# Altium footprint library 1.06-保险丝.PcbLib: 18 footprints (part 1 of 2)
Each footprint in its own frame and in the unit in brackets; x right, y up, seen from the top. Pads: shape width x height; smd on the part's side, far side on the other; paste and mask are expansions set on the pad; w line width, h text height; cw(c..) or ccw(c..) is an arc to the next point about the centre after c.
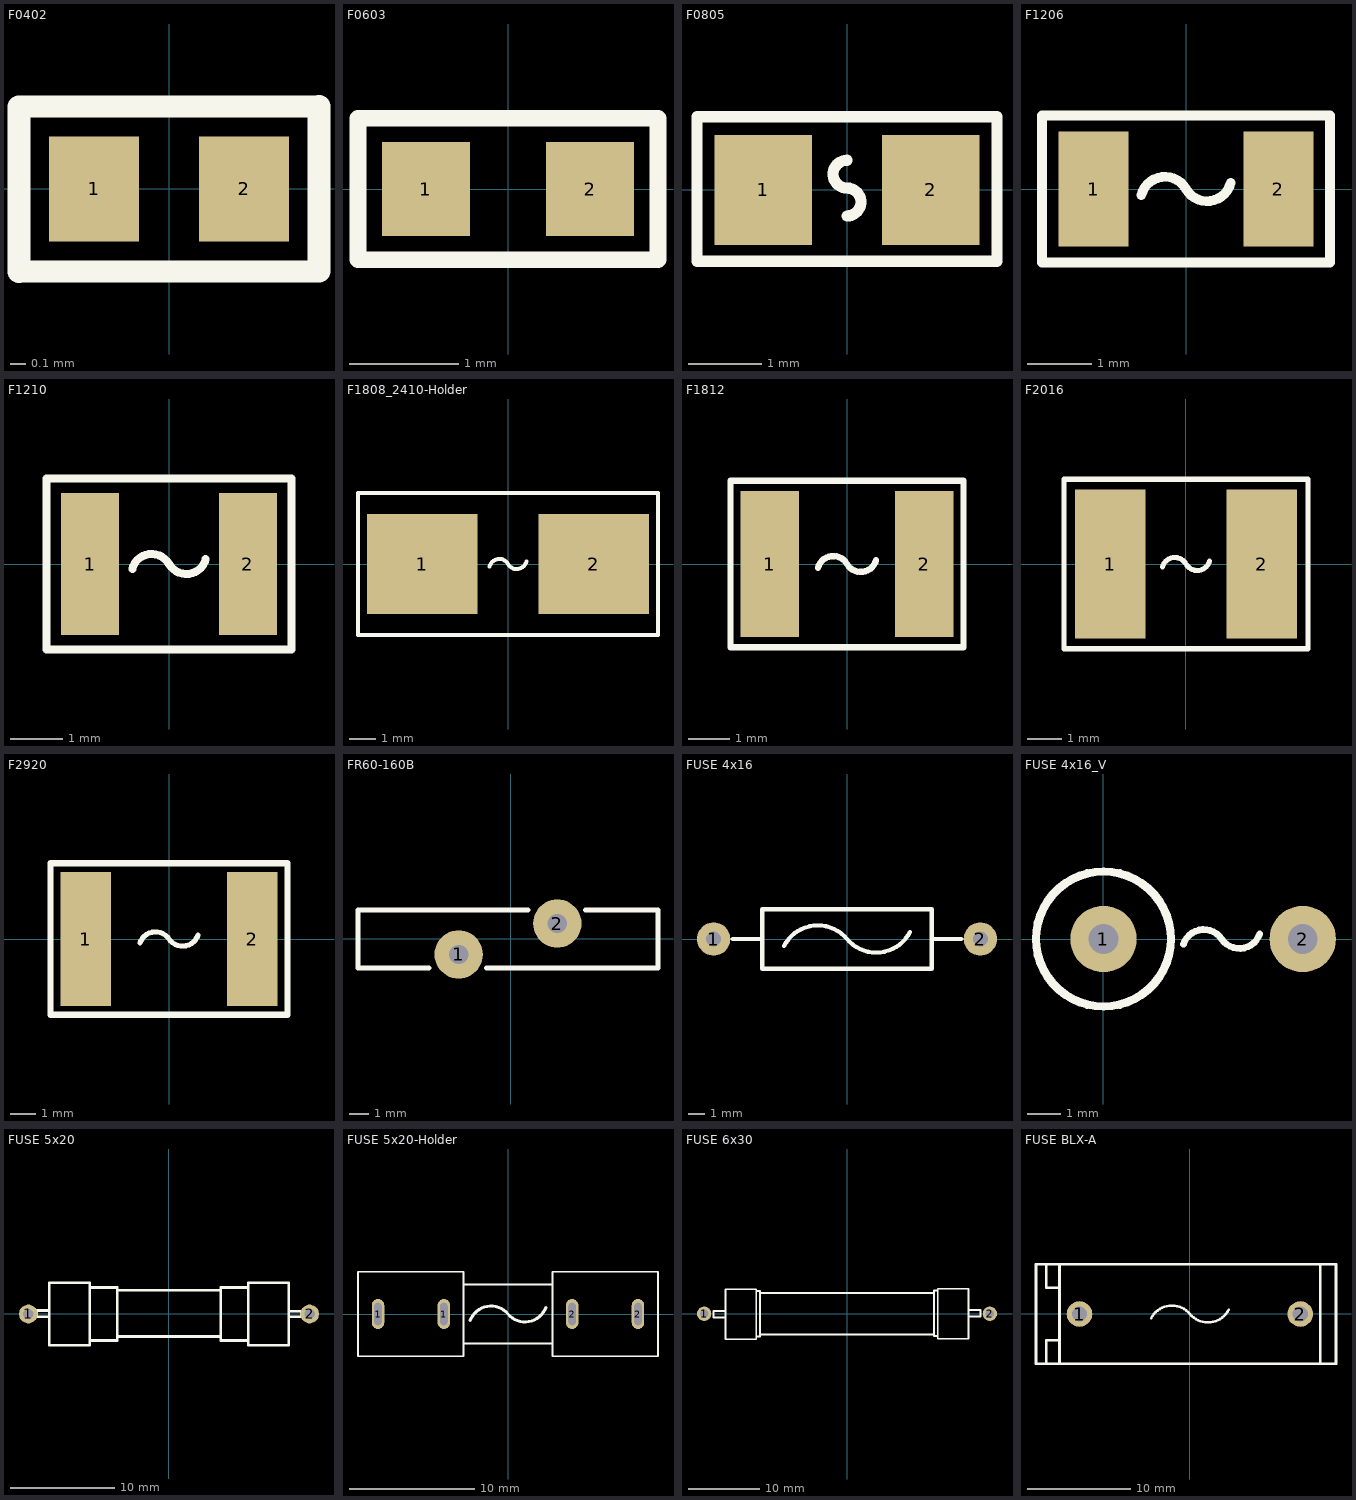
[diagram p0: the footprints below, top view; thin cyan lines are the x and y axes]

## F0402 [mm] "0402贴片自恢复保险丝(PPTC)"
pads (2):
  rect 0.6x0.7 smd: 1(-0.5,0) 2(0.5,0)
Top Overlay:
  lines w0.15: -1,-0.55 1,-0.55 1,0.55 -1,0.55 -1,-0.55
3D body: height 0.36, standoff 0.03, extent -0.5,-0.25 0.5,0.25

## F0603 [mm] "0603贴片自恢复保险丝(PPTC)"
pads (2):
  rect 0.806x0.864 smd: 1(-0.753,0) 2(0.753,0)
Top Overlay:
  lines w0.152: 1.374,-0.65 -1.375,-0.65 -1.375,0.65 1.375,0.65 1.375,-0.65
3D body: height 0.53, standoff 0, extent -0.825,-0.425 0.825,0.425

## F0805 [mm] "0805贴片自恢复保险丝(PPTC)   联系卖家 免费查找封装"
pads (2):
  rect 1.335x1.5 smd: 1(-1.142,0) 2(1.142,0)
Top Overlay:
  lines w0.152: 0,-0.356 ccw(c0,-0.166) 0,0.025 cw(c0,0.215) 0,0.406 ; -2.05,-0.975 2.05,-0.975 2.05,1 -2.05,1 -2.05,-0.975
3D body: height 0.8, standoff 0, extent -1.05,-0.7 1.05,0.7

## F1206 [mm] "1206贴片自恢复保险丝(PPTC)   联系卖家 免费查找封装"
pads (2):
  rect 1.1x1.8 smd: 1(-1.445,0) 2(1.445,0)
Top Overlay:
  lines w0.152: -0.698,-0.092 cw(c-0.33,-0.191) 0,0 ccw(c0.33,0.191) 0.698,0.092 ; -2.25,-1.15 2.25,-1.15 2.25,1.15 -2.25,1.15 -2.25,-1.15
3D body: height 0.61, standoff 0.01, extent -1.6,-0.85 1.6,0.85

## F1210 [mm] "1210贴片自恢复保险丝(PPTC)"
pads (2):
  rect 1.1x2.7 smd: 1(-1.5,0) 2(1.5,0)
Top Overlay:
  lines w0.152: -0.698,-0.092 cw(c-0.33,-0.191) 0,0 ccw(c0.33,0.191) 0.698,0.092 ; -2.325,-1.625 2.325,-1.625 2.325,1.625 -2.325,1.625 -2.325,-1.625
3D body: height 0.62, standoff 0, extent -1.6,-1.3 1.6,1.3

## F1808_2410-Holder [mm] "1808/2410贴片保险丝座"
pads (2):
  rect 4.2x3.8 smd: 1(-3.25,0) 2(3.25,0)
Top Overlay:
  lines w0.152: -0.698,-0.092 cw(c-0.33,-0.191) 0,0 ccw(c0.33,0.191) 0.698,0.092 ; -5.7,-2.7 -5.7,2.7 5.7,2.7 5.7,-2.7 -5.7,-2.7
3D body: height 3.81, standoff 0, extent -4.865,-2.516 4.865,2.516

## F1812 [mm] "1812贴片自恢复保险丝(PPTC)"
pads (2):
  rect 1.407x3.499 smd: 1(-1.853,0) 2(1.853,0)
Top Overlay:
  lines w0.152: -0.698,-0.092 cw(c-0.33,-0.191) 0,0 ccw(c0.33,0.191) 0.698,0.092 ; -2.8,-2 -2.8,2 2.8,2 2.8,-2 -2.8,-2
3D body: height 1.04, standoff 0, extent -2.25,-1.6 2.25,1.6

## F2016 [mm] "2016贴片自恢复保险丝(PPTC)"
pads (2):
  rect 2.085x4.385 smd: 1(-2.232,0) 2(2.233,0)
Top Overlay:
  lines w0.152: -0.698,-0.092 cw(c-0.33,-0.191) 0,0 ccw(c0.33,0.191) 0.698,0.092 ; -3.6,-2.5 -3.6,2.5 3.6,2.5 3.6,-2.5 -3.6,-2.5
3D body: height 1.02, standoff 0.02, extent -2.722,-2.217 2.722,2.217

## F2920 [mm] "2920贴片自恢复保险丝(PPTC)   联系卖家 免费查找封装"
pads (2):
  rect 2x5.3 smd: 1(-3.3,0) 2(3.3,0)
Top Overlay:
  lines w0.203: -1.15,-0.156 cw(c-0.537,-0.362) 0,0 ccw(c0.537,0.362) 1.15,0.156
  lines w0.254: -4.7,-3 4.7,-3 4.7,3 -4.7,3 -4.7,-3
3D body: height 0.74, standoff 0, extent -4,-2.7 4,2.7

## FR60-160B [mm] "直径15.5mm，厚度3mm，脚距5.1mm"
pads (2):
  round 2.5 hole 1: 1(-2.7,-0.8) 2(2.4,0.8)
Top Overlay:
  lines w0.254: -4.216,-1.5 -7.899,-1.5 -7.899,1.5 0.889,1.499 ; -1.27,-1.499 7.601,-1.5 7.601,1.5 3.861,1.499
3D body: height 18.5, standoff -3.5, extent -7.898,-1.5 7.599,1.5

## FUSE 4x16 [mm] "4*16mm(直径，脚距）"
pads (2):
  round 2 hole 0.9: 1(-8,0) 2(8,0)
Top Overlay:
  lines w0.254: -6.858,0 -5.08,0 ; -3.782,-0.419 cw(c-1.751,-1.469) 0,0 ccw(c1.751,1.469) 3.782,0.419 ; 5.08,0 6.858,0 ; -5.08,-1.778 -5.08,1.778 5.08,1.778 5.08,-1.778 -5.08,-1.778
3D body: height 3.95, standoff -3.55, extent -8.3,-1.95 8.3,1.95

## FUSE 4x16_V [mm] "4*16mm(直径，脚距）         淘宝ID:黄晶宝石"
pads (2):
  round 2 hole 0.9: 1(0,0) 2(6,0)
Top Overlay:
  circle w0.254: c0,0 r2.032
  lines w0.203: 2.406,-0.156 cw(c3.019,-0.362) 3.556,0 ccw(c4.093,0.362) 4.706,0.156
3D body: height 13.1, standoff -3.5, extent -2,-1.997 6.3,1.997

## FUSE 5x20 [mm] "BD5.5-L21.5-P25.50-D0.7"
pads (2):
  round 1.801 hole 1.001 mask+0.051: 1(-13.5,0) 2(13.5,0)
Top Overlay:
  lines w0.254: -11.501,-0.254 -12.7,-0.254 -12.7,0.333 -11.501,0.333 ; -4.953,-2.159 4.953,-2.159 ; -4.953,2.286 4.953,2.286 ; 11.501,-0.254 12.7,-0.254 12.7,0.264 11.501,0.264 ; -7.62,-2.54 -7.62,-3 -11.501,-3 -11.501,3 -7.62,3 -7.62,2.54 ; -7.62,-2.54 -4.953,-2.54 -4.953,2.54 -7.62,2.54 ; -7.62,-2.54 -7.62,2.54 ; 7.62,-2.54 7.62,-3 11.501,-3 11.501,3 7.62,3 7.62,2.54 ; 7.62,-2.54 4.953,-2.54 4.953,2.54 7.62,2.54 ; 7.62,-2.54 7.62,2.54
3D body: height 6.4, standoff -3.4, extent -13.825,-3.1 13.825,3.1

## FUSE 5x20-Holder [mm] "5*20保险管底座夹子"
pads (4):
  oval 1x2.4 hole 0.6 slot 1.8 at 90 deg: 1(-10.4,0) 1(-5.13,0) 2(5.13,0) 2(10.4,0)
Top Overlay:
  lines w0.15: -3.556,-2.35 3.556,-2.35 ; -3.556,2.35 3.556,2.35 ; -12,-3.38 -12,3.38 -3.556,3.38 -3.556,-3.38 -12,-3.38 ; 3.556,-3.38 3.556,3.38 12,3.38 12,-3.38 3.556,-3.38
  lines w0.254: -3.027,-0.52 cw(c-1.362,-1.143) 0,0 ccw(c1.362,1.143) 3.027,0.52
3D body: height 9.77, standoff -3.6, extent -10.8,-3.15 10.8,3.15

## FUSE 6x30 [mm] "BD7.0-L32.7-P36.70-D0.9"
pads (2):
  round 1.999 hole 1.199 mask+0.051: 1(-20,0) 2(20,0)
Top Overlay:
  lines w0.254: -17.018,-0.508 -18.669,-0.508 -18.669,0.381 -17.018,0.381 ; -12.192,-2.921 12.192,-2.921 ; -12.192,2.921 12.192,2.921 ; 17.018,-0.381 18.669,-0.381 18.669,0.508 17.018,0.508 ; -17.018,-3.556 -17.018,3.429 -12.7,3.429 -12.7,-3.556 -17.018,-3.556 ; -12.7,-3.175 -12.7,3.175 -12.192,3.175 -12.192,-3.175 -12.7,-3.175 ; 12.192,-3.111 12.192,3.238 12.7,3.238 12.7,-3.111 12.192,-3.111 ; 12.7,-3.492 12.7,3.492 17.018,3.492 17.018,-3.492 12.7,-3.492
3D body: height 6.99, standoff -5, extent -20.341,-3.728 20.68,3.257

## FUSE BLX-A [mm] "BLX-A型保险丝座"
pads (2):
  round 2.5 hole 1.5: 1(-10.75,0) 2(10.75,0)
Top Overlay:
  lines w0.254: -12.7,-4.826 -12.7,-2.54 ; -12.7,4.826 -12.7,2.54 ; -3.782,-0.419 cw(c-1.751,-1.469) 0,0 ccw(c1.751,1.469) 3.781,0.419 ; 12.446,-4.826 14.224,-4.826 14.224,4.826 12.7,4.826 ; -13.97,-4.826 -14.986,-4.826 -14.986,4.826 -13.97,4.826 ; -13.97,-4.826 12.7,-4.826 12.7,4.826 ; -13.97,-4.826 -13.97,-2.54 -12.7,-2.54 ; -13.97,4.826 12.7,4.826 ; -13.97,4.826 -13.97,2.54 -12.7,2.54 ; -12.7,-2.54 -12.7,2.54
3D body: height 13.9, standoff -3.6, extent -15.05,-4.75 14.3,4.75
3D body: height 0, standoff 0, extent 0,0 0,0